# Altium footprint library microbit.PcbLib: 18 footprints (part 2 of 2)
Each footprint in its own frame and in the unit in brackets; x right, y up, seen from the top. Pads: shape width x height; smd on the part's side, far side on the other; paste and mask are expansions set on the pad; w line width, h text height; cw(c..) or ccw(c..) is an arc to the next point about the centre after c.
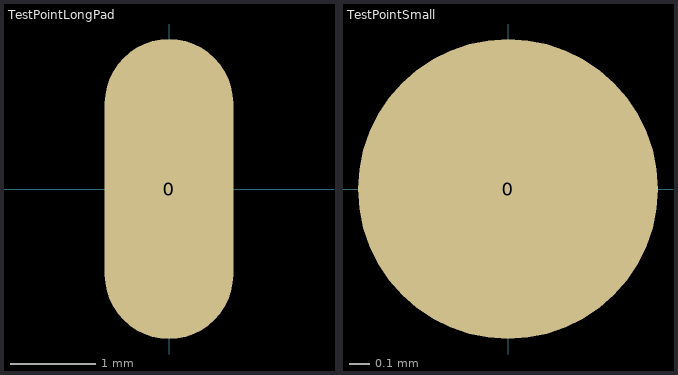
[diagram p1: the footprints below, top view; thin cyan lines are the x and y axes]

## TestPointLongPad [mm]
pads (1):
  oval 1.5x3.5 smd: 0(0,0)

## TestPointSmall [mm]
pads (1):
  round 1.5 smd: 0(0,0)